# Altium schematic symbol library ICs-GasGauges.SchLib: 1 symbol
Pins are listed as number, name and electrical type; pins without a type are passive.

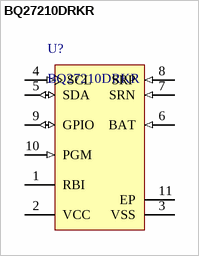
[diagram p0: symbol BQ27210DRKR]

## BQ27210DRKR
designator U?
Manufacturer: Texas Instruments; PartNumber: BQ27210DRKR; PackageReference: VSON-10; Mounting Technology: Surface Mount
footprint VSON-10 (SON, 10-Leads, Body 4x3mm, Pitch 0.5mm, Thermal Pad 3.8x2.65mm)
pins: 1 RBI (power) "Register back-up input", 2 VCC (power) "VCC supply input", 3 VSS (power) "Ground input", 4 SCL (in) "Serial clock input (I2C)", 5 SDA (io) "Serial data input (I2C)", 6 BAT (in) "Battery voltage sense input", 7 SRN (in) "Current sense input (negative)", 8 SRP (in) "Current sense input (positive)", 9 GPIO (io) "General purpose input/output", 10 PGM (in) "EEPROM programming voltage input", 11 EP (power) "Ground shield"